# EAGLE library part DSPIC33EP256GM304 (library stepOSP)
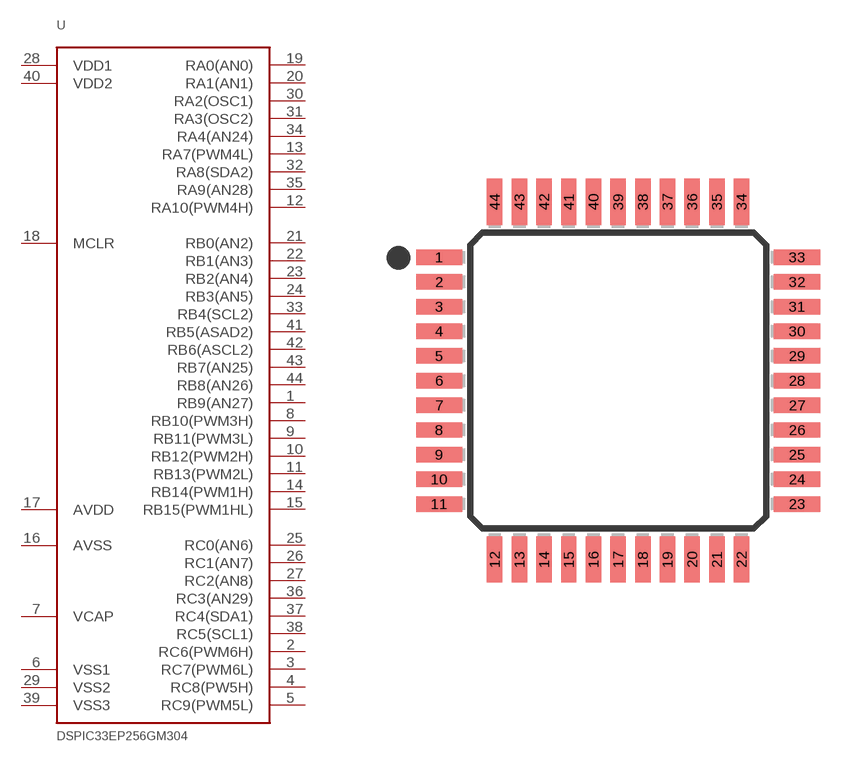
[diagram p2: symbol with the pads of TQFP44; footprint TQFP44]

Designator prefix -

## DSPIC33EP256GM304  [TQFP44]
1  RB9(AN27)
2  RC6(PWM6H)
3  RC7(PWM6L)
4  RC8(PW5H)
5  RC9(PWM5L)
6  VSS1
7  VCAP
8  RB10(PWM3H)
9  RB11(PWM3L)
10  RB12(PWM2H)
11  RB13(PWM2L)
12  RA10(PWM4H)
13  RA7(PWM4L)
14  RB14(PWM1H)
15  RB15(PWM1HL)
16  AVSS
17  AVDD
18  MCLR
19  RA0(AN0)
20  RA1(AN1)
21  RB0(AN2)
22  RB1(AN3)
23  RB2(AN4)
24  RB3(AN5)
25  RC0(AN6)
26  RC1(AN7)
27  RC2(AN8)
28  VDD1
29  VSS2
30  RA2(OSC1)
31  RA3(OSC2)
32  RA8(SDA2)
33  RB4(SCL2)
34  RA4(AN24)
35  RA9(AN28)
36  RC3(AN29)
37  RC4(SDA1)
38  RC5(SCL1)
39  VSS3
40  VDD2
41  RB5(ASAD2)
42  RB6(ASCL2)
43  RB7(AN25)
44  RB8(AN26)

## Footprint TQFP44 (pad centres in mm)
smd 1.5 x 0.5: 1 -5.8,4; 2 -5.8,3.2; 3 -5.8,2.4; 4 -5.8,1.6; 5 -5.8,0.8; 6 -5.8,0; 7 -5.8,-0.8; 8 -5.8,-1.6; 9 -5.8,-2.4; 10 -5.8,-3.2; 11 -5.8,-4; 23 5.8,-4; 24 5.8,-3.2; 25 5.8,-2.4; 26 5.8,-1.6; 27 5.8,-0.8; 28 5.8,0; 29 5.8,0.8; 30 5.8,1.6; 31 5.8,2.4; 32 5.8,3.2; 33 5.8,4
smd 0.5 x 1.5: 12 -4,-5.8; 13 -3.2,-5.8; 14 -2.4,-5.8; 15 -1.6,-5.8; 16 -0.8,-5.8; 17 0,-5.8; 18 0.8,-5.8; 19 1.6,-5.8; 20 2.4,-5.8; 21 3.2,-5.8; 22 4,-5.8; 34 4,5.8; 35 3.2,5.8; 36 2.4,5.8; 37 1.6,5.8; 38 0.8,5.8; 39 0,5.8; 40 -0.8,5.8; 41 -1.6,5.8; 42 -2.4,5.8; 43 -3.2,5.8; 44 -4,5.8